# Altium footprint library KLS1-229-5FA.PcbLib: 1 footprints
Each footprint in its own frame and in the unit in brackets; x right, y up, seen from the top. Pads: shape width x height; smd on the part's side, far side on the other; paste and mask are expansions set on the pad; w line width, h text height; cw(c..) or ccw(c..) is an arc to the next point about the centre after c.
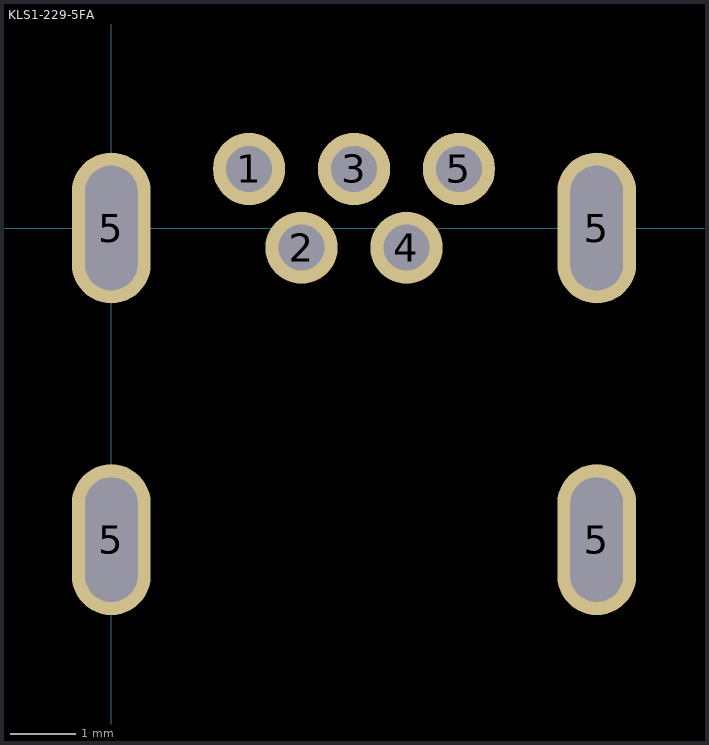
[diagram p0: the footprint, top view; thin cyan lines are the x and y axes]

## KLS1-229-5FA [mm] "Mini-USB-B5F PCB Right Angle. DIP Type."
pads (9):
  round 1.1 hole 0.7 mask+0.1: 1(2.1,0.9) 2(2.9,-0.3) 3(3.7,0.9) 4(4.5,-0.3) 5(5.3,0.9)
  oval 1.2x2.3 hole 0.8 slot 1.9 at 90 deg mask+0.1: 5(0,-4.75) 5(0,0) 5(7.4,-4.75) 5(7.4,0)
3D body "USB-Mini-B.SLDPRT": height 3.95, standoff -1.8, extent -0.15,-7.925 7.55,1.075